# Altium footprint library lib_driver.pcblib: 30 footprints (part 4 of 5)
Each footprint in its own frame and in the unit in brackets; x right, y up, seen from the top. Pads: shape width x height; smd on the part's side, far side on the other; paste and mask are expansions set on the pad; w line width, h text height; cw(c..) or ccw(c..) is an arc to the next point about the centre after c.
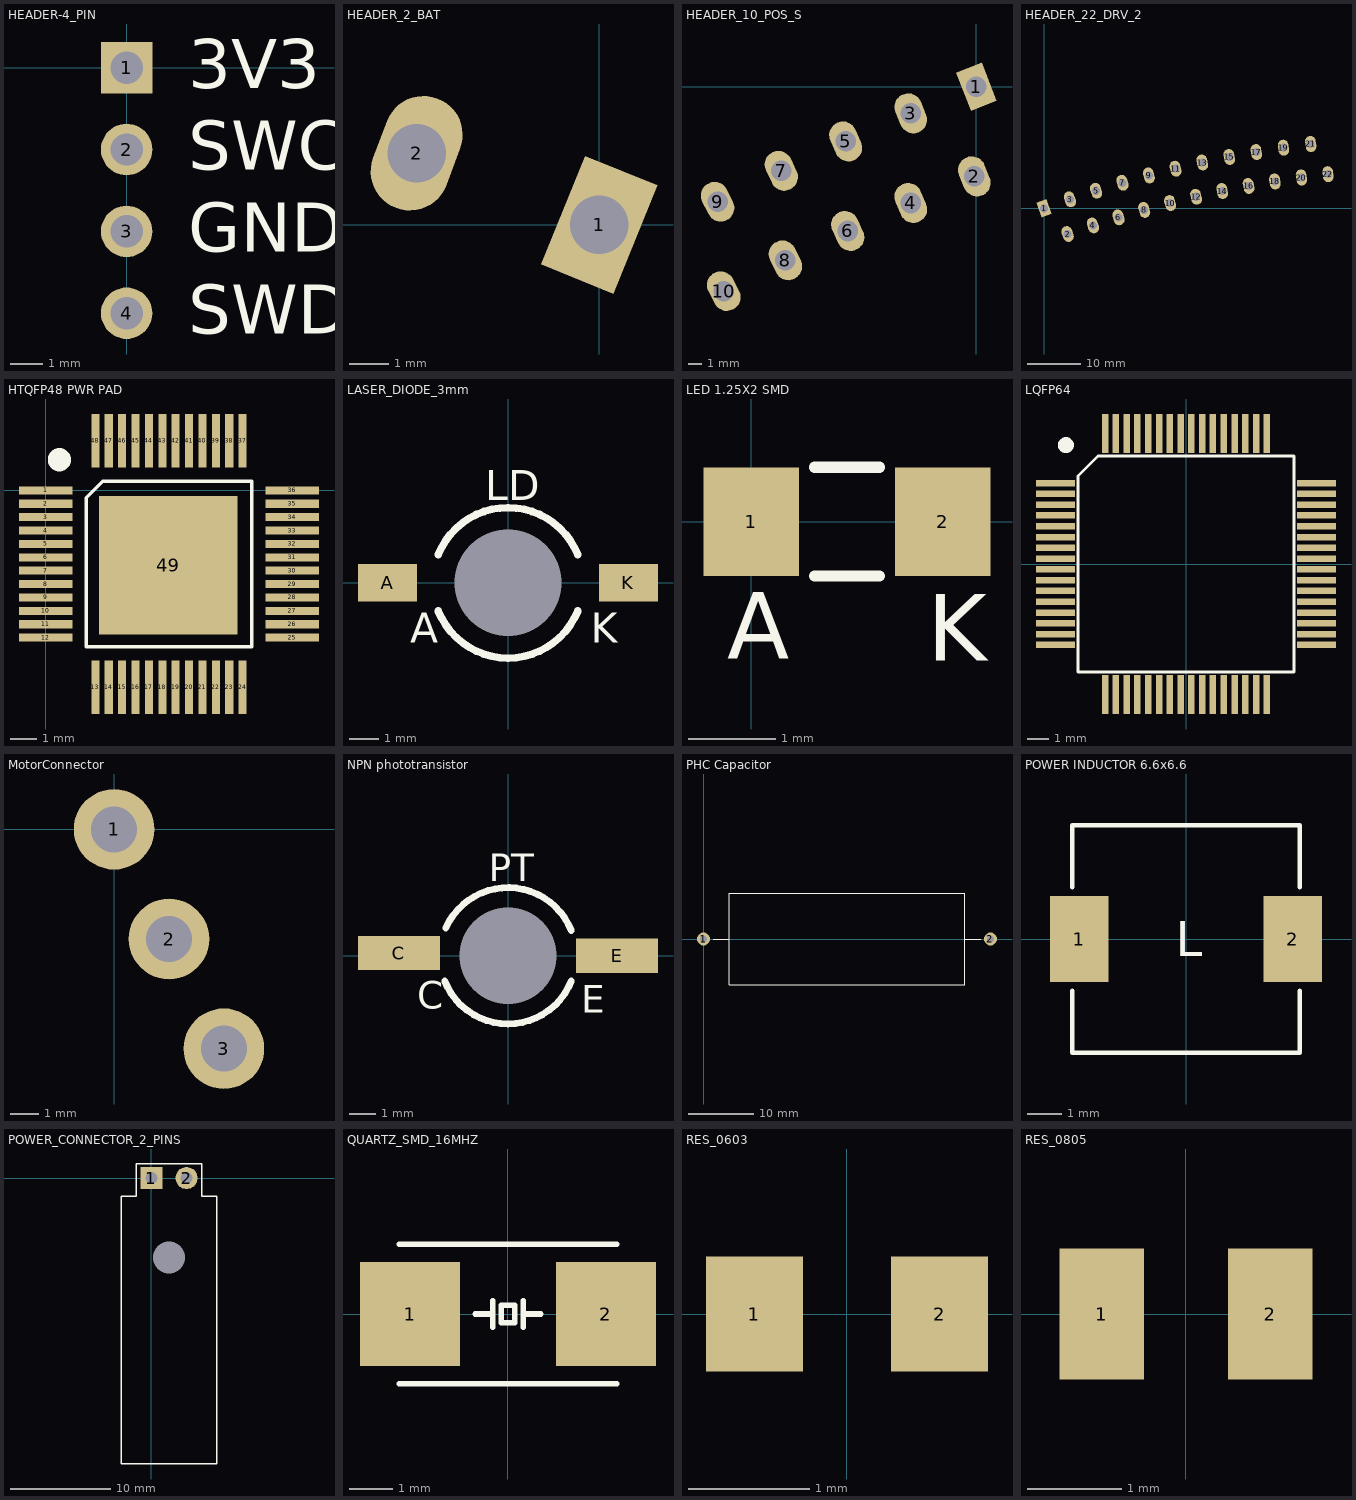
[diagram p3: the footprints below, top view; thin cyan lines are the x and y axes]

## HEADER-4_PIN [mm] "HARWIN M20-9993646"
height 9.1
pads (4):
  rect 1.6x1.6 hole 1: 1(0,0)
  round 1.6 hole 1: 2(0,-2.54) 3(0,-5.08) 4(0,-7.62)
Top Overlay:
  text "SWDIO" at 1.905,-8.255 h1.52
  text "GND" at 1.905,-5.715 h1.52
  text "3V3" at 1.905,-0.635 h1.52
  text "SWCLK" at 1.905,-3.175 h1.52
3D body "m20-9990445_asm.stp": height 8.65, standoff -3.03, extent -1.3,-8.88 1.24,1.28

## HEADER_2_BAT [mm] "2 vias for battery supply from another pcb"
pads (2):
  rect 2x3 hole 1.5 rot 158.01: 1(0,0)
  oval 2x3 hole 1.5 rot 159.3: 2(-4.667,1.831)

## HEADER_10_POS_S [mm] "Header, 10 pins, distance 100mil, dia. 50mil"
pads (10):
  rect 2x3 hole 1.5 rot 21.34: 1(0,0)
  oval 2x3 hole 1.5 rot 21.99: 2(-0.145,-6.514)
  oval 2x3 hole 1.5 rot 22.64: 3(-4.774,-1.929)
  oval 2x3 hole 1.5 rot 23.28: 4(-4.772,-8.445)
  oval 2x3 hole 1.5 rot 23.93: 5(-9.504,-3.965)
  oval 2x3 hole 1.5 rot 24.58: 6(-9.355,-10.479)
  oval 2x3 hole 1.5 rot 25.22: 7(-14.186,-6.107)
  oval 2x3 hole 1.5 rot 25.87: 8(-13.89,-12.616)
  oval 2x3 hole 1.5 rot 26.52: 9(-18.819,-8.355)
  oval 2x3 hole 1.5 rot 27.17: 10(-18.376,-14.856)

## HEADER_22_DRV_2 [mm] "Connection with stator_down, 22 vias"
pads (22):
  rect 2x3 hole 1.5 rot 20.05: 1(0,0)
  oval 2x3 hole 1.5 rot 19.4: 2(4.417,-4.789)
  oval 2x3 hole 1.5 rot 18.76: 3(4.856,1.711)
  oval 2x3 hole 1.5 rot 18.11: 4(9.164,-3.176)
  oval 2x3 hole 1.5 rot 17.46: 5(9.75,3.313)
  oval 2x3 hole 1.5 rot 16.82: 6(13.947,-1.671)
  oval 2x3 hole 1.5 rot 16.17: 7(14.679,4.803)
  oval 2x3 hole 1.5 rot 15.52: 8(18.762,-0.275)
  oval 2x3 hole 1.5 rot 14.88: 9(19.64,6.181)
  oval 2x3 hole 1.5 rot 14.23: 10(23.608,1.012)
  oval 2x3 hole 1.5 rot 13.58: 11(24.631,7.448)
  oval 2x3 hole 1.5 rot 12.94: 12(28.481,2.191)
  oval 2x3 hole 1.5 rot 12.29: 13(29.65,8.601)
  oval 2x3 hole 1.5 rot 11.64: 14(33.38,3.258)
  oval 2x3 hole 1.5 rot 11: 15(34.693,9.64)
  oval 2x3 hole 1.5 rot 10.35: 16(38.301,4.215)
  oval 2x3 hole 1.5 rot 9.7: 17(39.758,10.565)
  oval 2x3 hole 1.5 rot 9.05: 18(43.243,5.059)
  oval 2x3 hole 1.5 rot 8.41: 19(44.843,11.376)
  oval 2x3 hole 1.5 rot 7.76: 20(48.203,5.793)
  oval 2x3 hole 1.5 rot 7.11: 21(49.945,12.072)
  oval 2x3 hole 1.5 rot 6.47: 22(53.178,6.414)

## HTQFP48 PWR PAD [mm] "Driver 8305N"
height 1.2
pads (49):
  rect 2x0.3 smd mask+0.051: 1(0,0) 2(0,-0.5) 3(0,-1) 4(0,-1.5) 5(0,-2) 6(0,-2.5) 7(0,-3) 8(0,-3.5) 9(0,-4) 10(0,-4.5) 11(0,-5) 12(0,-5.5) 25(9.2,-5.5) 26(9.2,-5) 27(9.2,-4.5) 28(9.2,-4) 29(9.2,-3.5) 30(9.2,-3) 31(9.2,-2.5) 32(9.2,-2) 33(9.2,-1.5) 34(9.2,-1) 35(9.2,-0.5) 36(9.2,0)
  rect 0.3x2 smd mask+0.051: 13(1.85,-7.35) 14(2.35,-7.35) 15(2.85,-7.35) 16(3.35,-7.35) 17(3.85,-7.35) 18(4.35,-7.35) 19(4.85,-7.35) 20(5.35,-7.35) 21(5.85,-7.35) 22(6.35,-7.35) 23(6.85,-7.35) 24(7.35,-7.35) 37(7.35,1.85) 38(6.85,1.85) 39(6.35,1.85) 40(5.85,1.85) 41(5.35,1.85) 42(4.85,1.85) 43(4.35,1.85) 44(3.85,1.85) 45(3.35,1.85) 46(2.85,1.85) 47(2.35,1.85) 48(1.85,1.85)
  rect 5.17x5.17 smd: 49(4.572,-2.794)
Top Overlay:
  circle w0.508: c0.508,1.143 r0.18
  lines w0.127: 1.508,-5.842 7.692,-5.842 7.692,0.342 2.12,0.342 1.508,-0.27 1.508,-5.842
3D body "User Library-TQFP48.STEP": height 1.1, standoff 0, extent 0.089,-7.252 9.106,1.766

## LASER_DIODE_3mm [mm] "Laser Diode dia. 3mm, through hole"
pads (3):
  round 0 hole 3.6 unplated: 0(0,0)
  rect 2x1.27 smd: A(-4.064,0) K(4.064,0)
Top Overlay:
  lines w0.254: -2.358,-0.943 ccw(c0,0) 2.358,-0.943 ; -2.358,0.943 cw(c0,0) 2.358,0.943
  text "LD" at -0.762,2.794 h1.02
  text "A" at -3.302,-2.032 h1.02
  text "K" at 2.794,-2.032 h1.02
3D body "User Library-LED-D3R.STEP": height 7.51, standoff -3.59, extent -1.666,-2 2,2

## LED 1.25X2 SMD [mm] "LED 1.25mmx2mm SMD red, green"
height 1.1
pads (2):
  rect 1.1x1.25 smd: 1(0,0) 2(2.2,0)
Top Overlay:
  lines w0.127: 0.725,-0.625 1.475,-0.625 ; 0.725,0.625 1.475,0.625
  text "A" at -0.275,-1.575 h0.76
  text "K" at 2.025,-1.6 h0.76
3D body "AP2012.STEP": height 1.11, standoff 0.01, extent 0.125,-0.625 2.125,0.625

## LQFP64 [mm] "Microprocessor, STM32F415RG"
height 1.6
pads (64):
  rect 1.8x0.3 smd mask+0.051: 1(-6.05,3.75) 2(-6.05,3.25) 3(-6.05,2.75) 4(-6.05,2.25) 5(-6.05,1.75) 6(-6.05,1.25) 7(-6.05,0.75) 8(-6.05,0.25) 9(-6.05,-0.25) 10(-6.05,-0.75) 11(-6.05,-1.25) 12(-6.05,-1.75) 13(-6.05,-2.25) 14(-6.05,-2.75) 15(-6.05,-3.25) 16(-6.05,-3.75) 33(6.05,-3.75) 34(6.05,-3.25) 35(6.05,-2.75) 36(6.05,-2.25) 37(6.05,-1.75) 38(6.05,-1.25) 39(6.05,-0.75) 40(6.05,-0.25) 41(6.05,0.25) 42(6.05,0.75) 43(6.05,1.25) 44(6.05,1.75) 45(6.05,2.25) 46(6.05,2.75) 47(6.05,3.25) 48(6.05,3.75)
  rect 0.3x1.8 smd mask+0.051: 17(-3.75,-6.05) 18(-3.25,-6.05) 19(-2.75,-6.05) 20(-2.25,-6.05) 21(-1.75,-6.05) 22(-1.25,-6.05) 23(-0.75,-6.05) 24(-0.25,-6.05) 25(0.25,-6.05) 26(0.75,-6.05) 27(1.25,-6.05) 28(1.75,-6.05) 29(2.25,-6.05) 30(2.75,-6.05) 31(3.25,-6.05) 32(3.75,-6.05) 49(3.75,6.05) 50(3.25,6.05) 51(2.75,6.05) 52(2.25,6.05) 53(1.75,6.05) 54(1.25,6.05) 55(0.75,6.05) 56(0.25,6.05) 57(-0.25,6.05) 58(-0.75,6.05) 59(-1.25,6.05) 60(-1.75,6.05) 61(-2.25,6.05) 62(-2.75,6.05) 63(-3.25,6.05) 64(-3.75,6.05)
Top Overlay:
  circle w0.381: c-5.567,5.507 r0.18
  lines w0.127: -5,-5 5,-5 5,5 -4.08,5 -5,4.08 -5,3.625 -5,-5
3D body "User Library-LQFP64_Grid_0_5.STEP": height 1.6, standoff 0, extent -6,-6 6,6

## MotorConnector [mm]
pads (3):
  round 2.8 hole 1.6: 1(0,0) 2(1.905,-3.81) 3(3.81,-7.62)

## NPN phototransistor [mil] "NPN phototransistor, dia. 3mm, 850nm"
pads (3):
  round 0 hole 141.73 unplated: 0(0,0)
  rect 120x50 smd: C(-160,3.94) E(160,0)
Top Overlay:
  lines w10: -92.85,-37.14 ccw(c0,0) 92.85,-37.14 ; -91.34,40.71 cw(c0,0) 92.85,37.14
  text "PT" at -28.54,109.25 h40
  text "C" at -132.87,-77.76 h40
  text "E" at 107.28,-83.66 h40
3D body "User Library-OVLBR4C7.STEP": height 275.59, standoff -200.79, extent -59.85,-59.06 59.84,59.05

## PHC Capacitor [mm] "Polypropylene Capacitor 105PHC400K"
pads (2):
  round 2 hole 1.1: 1(0,0) 2(44,0)
Top Overlay:
  lines w0.1: 1.5,0 3.925,0 ; 40.075,0 42.5,0 ; 3.925,0 3.925,7 40.075,7 40.075,-7 3.925,-7 3.925,0
3D body: height 14, standoff 0, extent 5,-7 39,7

## POWER INDUCTOR 6.6x6.6 [mm] "Shielded power conductor, 10 mH, 1.3A"
height 4.8
pads (2):
  rect 1.7x2.5 smd: 1(-3.1,0) 2(3.1,0)
Top Overlay:
  lines w0.127: -3.3,-1.5 -3.3,-3.3 3.3,-3.3 3.3,-1.5 ; -3.3,1.5 -3.3,3.3 3.3,3.3 3.3,1.5
  text "L" at -0.3,-0.5 h1.02
3D body "SRR0604-6R8ML-coil.stp": height 4.8, standoff 0, extent -3.25,-3.25 3.25,3.25

## POWER_CONNECTOR_2_PINS [mm] "MOLEX Ultra-Fit 172310-1102, 14A, 600V"
height 9.67
pads (3):
  round 0 hole 3.2 unplated: 0(1.75,-7.91)
  rect 2.2x2.2 hole 1.2: 1(0,0)
  round 2.2 hole 1.2: 2(3.5,0)
Top Overlay:
  lines w0.127: -3,-28.5 -3,-1.8 -1.5,-1.8 -1.5,1.4 1.7,1.4 1.8,1.4 5,1.4 5,-1.8 6.5,-1.8 6.5,-28.5 -3,-28.5
3D body "1723101102.stp": height 8.67, standoff -3.49, extent -2.75,-15.25 6.25,0.378
3D body "1722561002.stp": height 9.44, standoff 0.01, extent -2.25,-28.35 5.75,-5.35

## QUARTZ_SMD_16MHZ [mm] "Crystal, 16MHz, ABM3 Series, 18pF, 50ppm, 20ppm"
height 1.3
pads (2):
  rect 2.3x2.4 smd: 1(-2.25,0) 2(2.25,0)
Top Overlay:
  lines w0.127: -2.5,-1.6 2.5,-1.6 ; -2.5,1.6 2.5,1.6 ; -0.75,0 -0.35,0 -0.35,0.3 -0.35,-0.3 ; 0.35,0.3 0.35,-0.3 0.35,0 0.75,0 ; -0.15,-0.2 0.15,-0.2 0.15,0.2 -0.15,0.2 -0.15,-0.2
3D body "ABM3.STEP": height 1.3, standoff 0, extent -2.5,-1.6 2.5,1.6

## RES_0603 [mm]
pads (2):
  rect 0.8x0.95 smd: 1(-0.765,0) 2(0.765,0)
3D body "res 0603.step": height 0.45, standoff 0, extent -0.8,-0.41 0.8,0.41

## RES_0805 [mm]
pads (2):
  rect 0.9x1.4 smd: 1(-0.9,0) 2(0.9,0)
3D body "User Library-CR2012-0805.step": height 0.6, standoff 0, extent -1.003,-0.622 0.997,0.628